# EAGLE library part JST6 (library mastrogippo)
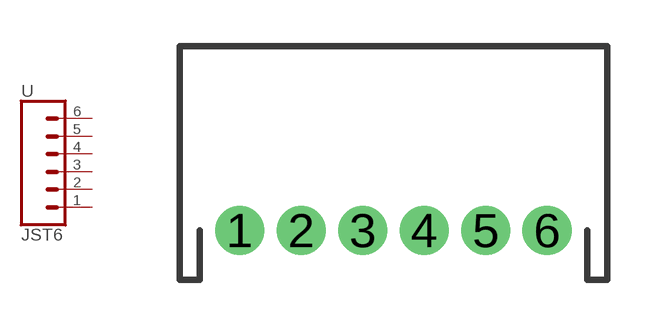
[diagram p24: symbol with the pads of JST-6-PTH; footprint JST-6-PTH]

Designator prefix -

## JST6  [JST-6-PTH]
1  1  pas
2  2  pas
3  3  pas
4  4  pas
5  5  pas
6  6  pas

## Footprint JST-6-PTH (pad centres in mm)
JST 5 Pin Right Angle Plated Through Hole Specifications: Pin count: 5 Pin pitch: 2mm Datasheet referenced for footprint <https://www.sparkfun.com/datasheets/Prototyping/ePH.pdf> Example device(s): CONN_05
drill 0.7 pad 1.6: 1 -4,0; 2 -2,0; 3 0,0; 4 2,0; 5 4,0; 6 5.99,0